# EAGLE library part MCP73831-5ACI_MC (library SW_BatteryChargers)
Charger IC Lithium Ion/Polymer 8-DFN (2x3)
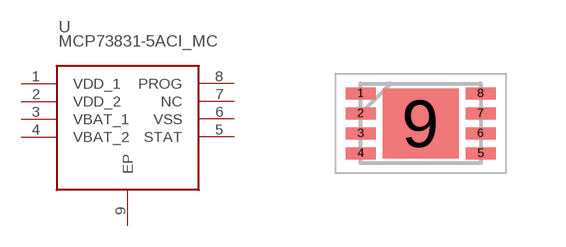
[diagram p2: symbol with the pads of SON50P300X200X100-9N; footprint SON50P300X200X100-9N]

Designator prefix U

## MCP73831-5ACI_MC (CATEGORY: Power; DESCRIPTION: Battery Management Li-Ion/Li-Poly Charg Mgnt 4.5V Vreg out; MFGS: Microchip,Microchip; MPNS: MCP73831-5ACI/MC,MCP73831T-5ACI/MC; PACKAGE: 8-DFN; PART_NUMBER: MCP73831-5ACI/MC; SW_PART_NUMBER: SW0000841)  [SON50P300X200X100-9N]
1  VDD_1
2  VDD_2
3  VBAT_1
4  VBAT_2
5  STAT
6  VSS
7  NC  nc
8  PROG
9  EP

## Footprint SON50P300X200X100-9N (pad centres in mm)
MCP1725-3302E/MC
smd 0.75 x 0.3: 1 -1.5,0.75; 2 -1.5,0.25; 3 -1.5,-0.25; 4 -1.5,-0.75; 5 1.5,-0.75; 6 1.5,-0.25; 7 1.5,0.25; 8 1.5,0.75
smd 1.9 x 1.75: 9 0,0